# Altium schematic symbol library PDB_Components_v1.6.SchLib: 21 symbols
Pins are listed as number, name and electrical type; pins without a type are passive.

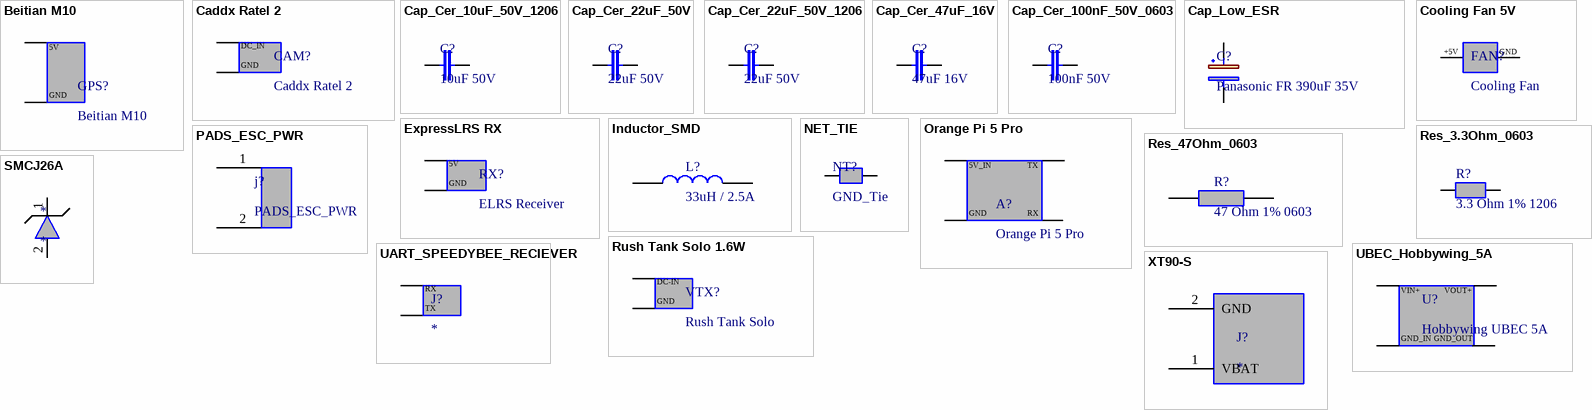
[diagram p0: symbols Beitian M10 to XT90-S]

## Beitian M10
designator GPS?
GNSS GPS + Compass Module, M10 Platform, UART & I2C Interface
footprint FOOTPRINT_BEITIAN_M10
pins: 1 5V (power), 2 GND (power)

## Caddx Ratel 2
designator CAM?
Analog FPV Micro Camera, 1200TVL, Ultra Low Light Starlight
footprint FOOTPRINT_Caddx_Ratel_2
pins: 1 DC_IN (power), 2 GND (power)

## Cap_Cer_10uF_50V_1206
designator C?, comment 10uF 50V
Ceramic Capacitor, 10 uF, 50 V, X7R Dielectric, 1206 SMD, UBEC VIN Buffer
footprint 1206 (CAPC3216X180N)
pins: 1 +, 2 -

## Cap_Cer_22uF_50V
designator С?, comment 22uF 50V
Multilayer Ceramic Capacitor (MLCC), 22uF 50V, X7R, 1210 (3225 Metric), High-Frequency ESC Filter. GRM32ER71H226ME14L
footprint 1210 (CAPC3225X280N)
pins: 1 +, 2 -

## Cap_Cer_22uF_50V_1206
designator C?, comment 22uF 50V
Capacitor MLCC 22uF 50V ±20% X7R 1206 (3216 Metric)
footprint 1206 (CAPC3216X180N)
pins: 1 +, 2 -

## Cap_Cer_47uF_16V
designator C?, comment 47uF 16V
Capacitor MLCC 47uF 16V X7R 1210 / GRM32ER71C476KE15L
footprint 1210 (CAPC3225X280N)
pins: 1 +, 2 -

## Cap_Cer_100nF_50V_0603
designator C?, comment 100nF 50V
High-Frequency Ceramic Capacitor, 100 nF, 50 V, X7R Dielectric, 0603 SMD, UBEC VIN Decoupling
footprint 0603 (CAPC1608X90N)
pins: 1 +, 2 -

## Cap_Low_ESR
designator C?, comment Panasonic FR 390uF 35V
Low ESR Aluminum Electrolytic Capacitor, Panasonic FR Series, 390uF 35V, Radial, 5mm Lead Pitc; Part Number: EEU-FR1V391L; Value: 390uF; Voltage: 35V; Manufacturer: Panasonic
footprint CAP_ELEC_D10.0_P5.0 (CAPRB500W60D1000H1600)
pins: 1 +, 2 -

## Cooling Fan 5V
designator FAN?, comment Cooling Fan
V DC Micro Cooling Fan, 25x25x10mm Active Cooling
footprint FOOTPRINT_FAN_5V
pins: 1 +5V (power), 2 GND

## ExpressLRS RX
designator RX?, comment ELRS Receiver
ExpressLRS 2.4GHz True Diversity Radio Receiver Module
footprint FOOTPRINT_ELRS_RX
pins: 1 5V (power), 2 GND (power)

## Inductor_SMD
designator L?, comment 33uH / 2.5A
Semi-Shielded Power Inductor, Bourns SRN6045 Series, 33uH 1.5A, 0.15 Ohm DCR, LC Video Filter; Manufacturer Part Number: SRN6045-330M; Value: 33uH; Manufacturer: Bourns; Current: 2.5A; DCR: 0.15 Ohm; Package: 6045 SMD
footprint FOOTPRINT_INDUCTOR_SRN6045
pins: 1, 2

## NET_TIE
designator NT?, comment GND_Tie  (net tie, no BOM)
Net-Tie zero-ohm bridge for ground separation
footprint NET_TIE_0.2MM
pins: 1 GND (power), 2 Video_GND (power)

## Orange Pi 5 Pro
designator A?
Rockchip RK3588S SoC, 8-Core CPU, 6 TOPS NPU, LPDDR5 RAM, 5V/5A Type-C Input
footprint FOOTPRINT_ORANGE_PI
pins: 1 5V_IN (power), 2 GND (power), 3 TX, 4 RX

## PADS_ESC_PWR
designator j?
Wire-to-Board 150A
footprint PADS_ESC_PWR
pins: 1, 2

## Res_3.3Ohm_0603
designator R?, comment 3.3 Ohm 1% 1206
Resistor SMD 3.3 Ohm 1% 1/10W (0.1W) 0603 Thick Film
footprint 0603 (CAPC1608X90N)
pins: 1, 2

## Res_47Ohm_0603
designator R?, comment 47 Ohm 1% 0603
Thick Film Chip Resistor, Yageo RC Series, 47 Ohm 1%, 0.1W (100mW), 0603 (1608 Metric), UART Protection; Part Number: RC0603FR-0747RL; Manufacturer: Yageo
footprint 0603 (CAPC1608X90N)
pins: 1, 2

## Rush Tank Solo 1.6W
designator VTX?, comment Rush Tank Solo
5.8GHz VTX 1.6W Video Transmitter Module
footprint FOOTPRINT_VTX_RUSH_SOLO
pins: 1 (7-36V) (power), 2 GND (power)
text: DC-IN

## SMCJ26A
designator *
Transient Voltage Suppressor (TVS) Diode, Unidirectional, 26V Vrwm, 1500W Peak, DO-214AB (SMC)
footprint DIODE_SMC
pins: 1 k (power), 2 A (power)

## UART_SPEEDYBEE_RECIEVER
designator J?
footprint UART_SPEEDYBEE_RECIEVER
pins: 1 RX (power), 2 TX (power)

## UBEC_Hobbywing_5A
designator U?, comment Hobbywing UBEC 5A
External Step-Down Switching Voltage Regulator Module, Hobbywing UBEC 5A, 2-6S LiPo Input, 5V/6V Selectable Output; Part Number: HW30607000; Input Voltage: 2-8S LiPo (5.5V - 33.6V); Output Voltage: 5.0V / 6.0V / 7.4V; Peak Current: 15A; Manufacturer: Hobbywing; Continuous Current: 5A; Type: Step-Down (Buck) DC-DC
footprint UBEC_Hobbywing_5A
pins: 1 VIN+ (power), 2 +5.1V (power), 3 GND_IN (power), 4 GND_OUT (power)
text: VOUT+

## XT90-S
designator J?
High-Current DC Power Connector with Integrated Anti-Spark Resistance, Amass XT90-S, 90A Peak
footprint XT90-S_PWR
pins: 1 VBAT (power), 2 GND (power)